# EAGLE library part FFC_15V_90G_1MM (library MarcEagleParts)
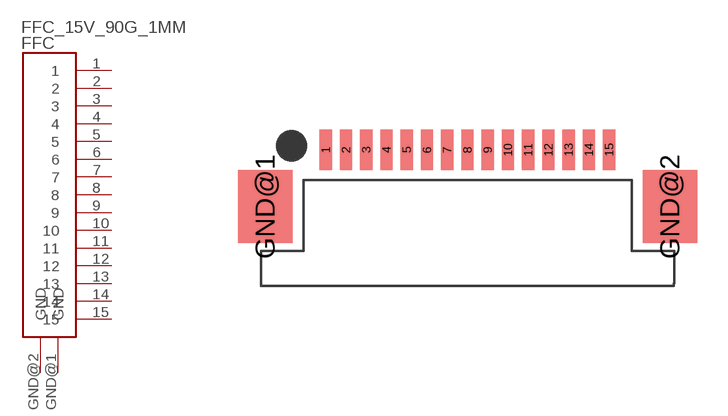
[diagram p4: symbol with the pads of TE_FFC_CON1MM; footprint TE_FFC_CON1MM]

Designator prefix FFC

## FFC_15V_90G_1MM  [TE_FFC_CON1MM]
1  1
2  2
3  3
4  4
5  5
6  6
7  7
8  8
9  9
10  10
11  11
12  12
13  13
14  14
15  15
GND@1  GND
GND@2  GND

## Footprint TE_FFC_CON1MM (pad centres in mm)
smd 0.61 x 2: 1 -7.01,2.8; 2 -6.01,2.8; 3 -5.01,2.8; 4 -4.01,2.8; 5 -3.01,2.8; 6 -2.01,2.8; 7 -1.01,2.8; 8 -0.01,2.8; 9 0.99,2.8; 10 1.99,2.8; 11 2.99,2.8; 12 3.99,2.8; 13 4.99,2.8; 14 5.99,2.8; 15 6.99,2.8
smd 2.68 x 3.6: GND@1 -10,0; GND@2 10,0